# EAGLE library part NUCLEO-SHIELD-ARDUINO (library ELL-i-Boards)
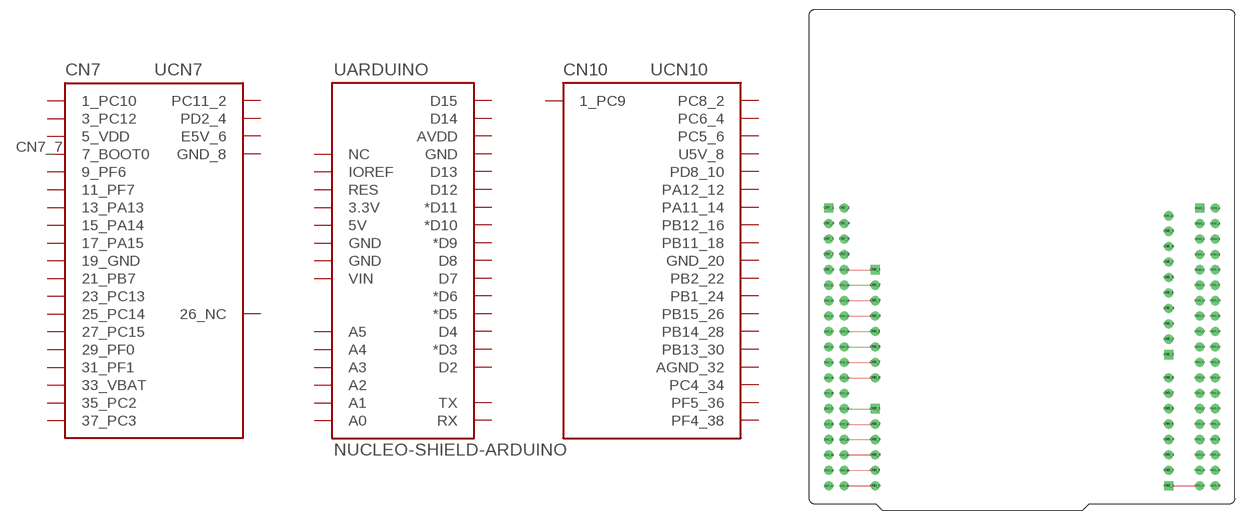
[diagram p1: symbol with the pads of NUCLEO-SHIELD-WITHHOLES-FULLSIZE; footprint NUCLEO-SHIELD-WITHHOLES-FULLSIZE]

Designator prefix -; gates ARDUINO=NUCLEO_ARDUINO CN7=NUCLEO_CN7_NON_ARDUINO CN10=NUCLEO_CN10_NON_ARDUINO

## NUCLEO-SHIELD-ARDUINO  [NUCLEO-SHIELD-WITHHOLES-FULLSIZE]
CN5_1  ARDUINO:D8
CN5_2  ARDUINO:*D9
CN5_3  ARDUINO:*D10
CN5_4  ARDUINO:*D11
CN5_5  ARDUINO:D12
CN5_6  ARDUINO:D13
CN5_7  ARDUINO:GND
CN5_8  ARDUINO:AVDD
CN5_9  ARDUINO:D14
CN5_10  ARDUINO:D15
CN6_1  ARDUINO:NC
CN6_2  ARDUINO:IOREF
CN6_3  ARDUINO:RES
CN6_4  ARDUINO:3.3V
CN6_5  ARDUINO:5V
CN6_6  ARDUINO:GND
CN6_7  ARDUINO:GND
CN6_8  ARDUINO:VIN
CN7_1  CN7:1_PC10
CN7_2  CN7:PC11_2
CN7_3  CN7:3_PC12
CN7_4  CN7:PD2_4
CN7_5  CN7:5_VDD
CN7_6  CN7:E5V_6
CN7_7  CN7:7_BOOT0
CN7_8  CN7:GND_8
CN7_9  CN7:9_PF6
CN7_11  CN7:11_PF7
CN7_12  ARDUINO:IOREF
CN7_13  CN7:13_PA13
CN7_14  ARDUINO:RES
CN7_15  CN7:15_PA14
CN7_16  ARDUINO:3.3V
CN7_17  CN7:17_PA15
CN7_18  ARDUINO:5V
CN7_19  CN7:19_GND
CN7_20  ARDUINO:GND
CN7_21  CN7:21_PB7
CN7_22  ARDUINO:GND
CN7_23  CN7:23_PC13
CN7_24  ARDUINO:VIN
CN7_25  CN7:25_PC14
CN7_26  CN7:26_NC
CN7_27  CN7:27_PC15
CN7_28  ARDUINO:A0
CN7_29  CN7:29_PF0
CN7_30  ARDUINO:A1
CN7_31  CN7:31_PF1
CN7_32  ARDUINO:A2
CN7_33  CN7:33_VBAT
CN7_34  ARDUINO:A3
CN7_35  CN7:35_PC2
CN7_36  ARDUINO:A4
CN7_37  CN7:37_PC3
CN7_38  ARDUINO:A5
CN8_1  ARDUINO:A0
CN8_2  ARDUINO:A1
CN8_3  ARDUINO:A2
CN8_4  ARDUINO:A3
CN8_5  ARDUINO:A4
CN8_6  ARDUINO:A5
CN9_1  ARDUINO:RX
CN9_2  ARDUINO:TX
CN9_3  ARDUINO:D2
CN9_4  ARDUINO:*D3
CN9_5  ARDUINO:D4
CN9_6  ARDUINO:*D5
CN9_7  ARDUINO:*D6
CN9_8  ARDUINO:D7
CN10_1  CN10:1_PC9
CN10_2  CN10:PC8_2
CN10_3  ARDUINO:D15
CN10_4  CN10:PC6_4
CN10_5  ARDUINO:D14
CN10_6  CN10:PC5_6
CN10_7  ARDUINO:AVDD
CN10_8  CN10:U5V_8
CN10_9  ARDUINO:GND
CN10_10  CN10:PD8_10
CN10_11  ARDUINO:D13
CN10_12  CN10:PA12_12
CN10_13  ARDUINO:D12
CN10_14  CN10:PA11_14
CN10_15  ARDUINO:*D11
CN10_16  CN10:PB12_16
CN10_17  ARDUINO:*D10
CN10_18  CN10:PB11_18
CN10_19  ARDUINO:*D9
CN10_20  CN10:GND_20
CN10_21  ARDUINO:D8
CN10_22  CN10:PB2_22
CN10_23  ARDUINO:D7
CN10_24  CN10:PB1_24
CN10_25  ARDUINO:*D6
CN10_26  CN10:PB15_26
CN10_27  ARDUINO:*D5
CN10_28  CN10:PB14_28
CN10_29  CN10:PB13_30
CN10_31  ARDUINO:*D3
CN10_32  CN10:AGND_32
CN10_33  ARDUINO:D2
CN10_34  CN10:PC4_34
CN10_35  ARDUINO:TX
CN10_36  CN10:PF5_36
CN10_37  ARDUINO:RX
CN10_38  CN10:PF4_38

## Footprint NUCLEO-SHIELD-WITHHOLES-FULLSIZE (pad centres in mm)
drill 1 square: CN5_1 59.13,25.63; CN6_1 10.87,39.6; CN7_1 3.25,49.76; CN8_1 10.87,16.74; CN9_1 59.13,4.04; CN10_1 64.21,49.76
drill 1: CN5_2 59.13,28.17; CN5_3 59.13,30.71; CN5_4 59.13,33.25; CN5_5 59.13,35.79; CN5_6 59.13,38.33; CN5_7 59.13,40.87; CN5_8 59.13,43.41; CN5_9 59.13,45.95; CN5_10 59.13,48.49; CN6_2 10.87,37.06; CN6_3 10.87,34.52; CN6_4 10.87,31.98; CN6_5 10.87,29.44; CN6_6 10.87,26.9; CN6_7 10.87,24.36; CN6_8 10.87,21.82; CN7_2 5.79,49.76; CN7_3 3.25,47.22; CN7_4 5.79,47.22; CN7_5 3.25,44.68; CN7_6 5.79,44.68; CN7_7 3.25,42.14; CN7_8 5.79,42.14; CN7_9 3.25,39.6; CN7_10 5.79,39.6; CN7_11 3.25,37.06; CN7_12 5.79,37.06; CN7_13 3.25,34.52; CN7_14 5.79,34.52; CN7_15 3.25,31.98; CN7_16 5.79,31.98; CN7_17 3.25,29.44; CN7_18 5.79,29.44; CN7_19 3.25,26.9; CN7_20 5.79,26.9; CN7_21 3.25,24.36; CN7_22 5.79,24.36; CN7_23 3.25,21.82; CN7_24 5.79,21.82; CN7_25 3.25,19.28; CN7_26 5.79,19.28; CN7_27 3.25,16.74; CN7_28 5.79,16.74; CN7_29 3.25,14.2; CN7_30 5.79,14.2; CN7_31 3.25,11.66; CN7_32 5.79,11.66; CN7_33 3.25,9.12; CN7_34 5.79,9.12; CN7_35 3.25,6.58; CN7_36 5.79,6.58; CN7_37 3.25,4.04; CN7_38 5.79,4.04; CN8_2 10.87,14.2; CN8_3 10.87,11.66; CN8_4 10.87,9.12; CN8_5 10.87,6.58; CN8_6 10.87,4.04; CN9_2 59.13,6.58; CN9_3 59.13,9.12; CN9_4 59.13,11.66; CN9_5 59.13,14.2; CN9_6 59.13,16.74; CN9_7 59.13,19.28; CN9_8 59.13,21.82; CN10_2 66.75,49.76; CN10_3 64.21,47.22; CN10_4 66.75,47.22; CN10_5 64.21,44.68; CN10_6 66.75,44.68; CN10_7 64.21,42.14; CN10_8 66.75,42.14; CN10_9 64.21,39.6; CN10_10 66.75,39.6; CN10_11 64.21,37.06; CN10_12 66.75,37.06; CN10_13 64.21,34.52; CN10_14 66.75,34.52; CN10_15 64.21,31.98; CN10_16 66.75,31.98; CN10_17 64.21,29.44; CN10_18 66.75,29.44; CN10_19 64.21,26.9; CN10_20 66.75,26.9; CN10_21 64.21,24.36; CN10_22 66.75,24.36; CN10_23 64.21,21.82; CN10_24 66.75,21.82; CN10_25 64.21,19.28; CN10_26 66.75,19.28; CN10_27 64.21,16.74; CN10_28 66.75,16.74; CN10_29 64.21,14.2; CN10_30 66.75,14.2; CN10_31 64.21,11.66; CN10_32 66.75,11.66; CN10_33 64.21,9.12; CN10_34 66.75,9.12; CN10_35 64.21,6.58; CN10_36 66.75,6.58; CN10_37 64.21,4.04; CN10_38 66.75,4.04